# EAGLE library part WANNENSTECKER14POL_SMD (library Wannenstecker - 14Pol)
Name des Bauteiles:Wannenstecker 14 Pol. SMD Daten:SMD, 14 Pol, Artikelnummer:Gz Datenblatt:www.alldatasheet.com
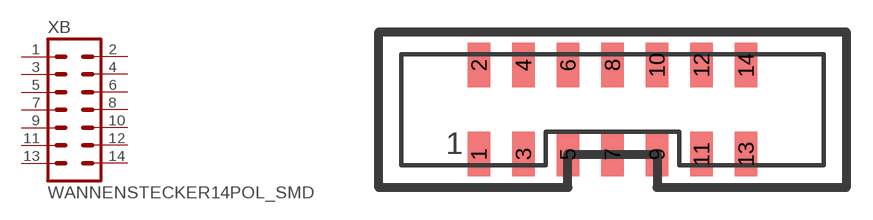
[diagram p0: symbol with the pads of WANNE_14P_SMD; footprint WANNE_14P_SMD]

Designator prefix XB

## WANNENSTECKER14POL_SMDSMD  [WANNE_14P_SMD]
1  1  pas
2  2  pas
3  3  pas
4  4  pas
5  5  pas
6  6  pas
7  7  pas
8  8  pas
9  9  pas
10  10  pas
11  11  pas
12  12  pas
13  13  pas
14  14  pas

## Footprint WANNE_14P_SMD (pad centres in mm)
smd 1.27 x 2.54: 1 -8.255,-3.175; 2 -8.255,1.905; 3 -5.715,-3.175; 4 -5.715,1.905; 5 -3.175,-3.175; 6 -3.175,1.905; 7 -0.635,-3.175; 8 -0.635,1.905; 9 1.905,-3.175; 10 1.905,1.905; 11 4.445,-3.175; 12 4.445,1.905; 13 6.985,-3.175; 14 6.985,1.905